# Altium schematic symbol library ON Semi Schottky Diode.SchLib: 1 symbol
Pins are listed as number, name and electrical type; pins without a type are passive.

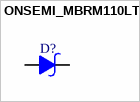
[diagram p0: symbol ONSEMI_MBRM110LT1G]

## ONSEMI_MBRM110LT1G
designator D?  (value not drawn)
DIODE SCHOTTKY 10V 1A; Supplier 1: Digi-Key; Supplier Part Number 1: MBRM110LT1GOSDKR-ND
footprint ON Semi Schottky Diode - MBRM110LT1G
pins: 1, 2